# EAGLE library part 741X163 (library 741X163)
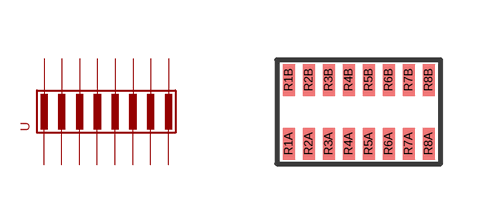
[diagram p0: symbol with the pads of 741X163; footprint 741X163]

Designator prefix -

## 741X163  [741X163]
R1A  P$1
R1B  P$16
R2A  P$2
R2B  P$15
R3A  P$3
R3B  P$14
R4A  P$4
R4B  P$13
R5A  P$5
R5B  P$12
R6A  P$6
R6B  P$11
R7A  P$7
R7B  P$10
R8A  P$8
R8B  P$9

## Footprint 741X163 (pad centres in mm)
smd 0.3 x 0.8: R1A 0,0.4; R1B 0,2; R2A 0.5,0.4; R2B 0.5,2; R3A 1,0.4; R3B 1,2; R4A 1.5,0.4; R4B 1.5,2; R5A 2,0.4; R5B 2,2; R6A 2.5,0.4; R6B 2.5,2; R7A 3,0.4; R7B 3,2; R8A 3.5,0.4; R8B 3.5,2